# Altium schematic symbol library MLX90614.SchLib: 1 symbol
Pins are listed as number, name and electrical type; pins without a type are passive.

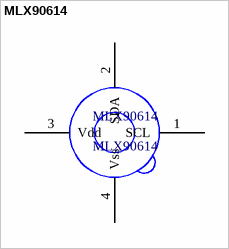
[diagram p0: symbol MLX90614]

## MLX90614
designator MLX90614
footprint MLX90614
pins: 1 SCL, 2 SDA, 3 Vdd, 4 Vss